# Altium integrated library TESDL5V0B12P1Q0_M7G.IntLib: 1 symbol
Pins are listed as number, name and electrical type; pins without a type are passive.

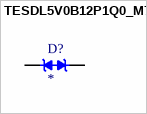
[diagram p0: symbol TESDL5V0B12P1Q0_M7G]

## TESDL5V0B12P1Q0_M7G
designator D?
MF: {'manufacturer': u'Taiwan Semiconductor'}; MP: TESDL5V0B12P1Q0_M7G; Package: None; Price: None; Value: *; Availability: Unavailable
footprint DFN61X31X34-2N
pins: 1, 2